# Altium schematic symbol library soldeerstation.SCHLIB: 20 symbols
Pins are listed as number, name and electrical type; pins without a type are passive.

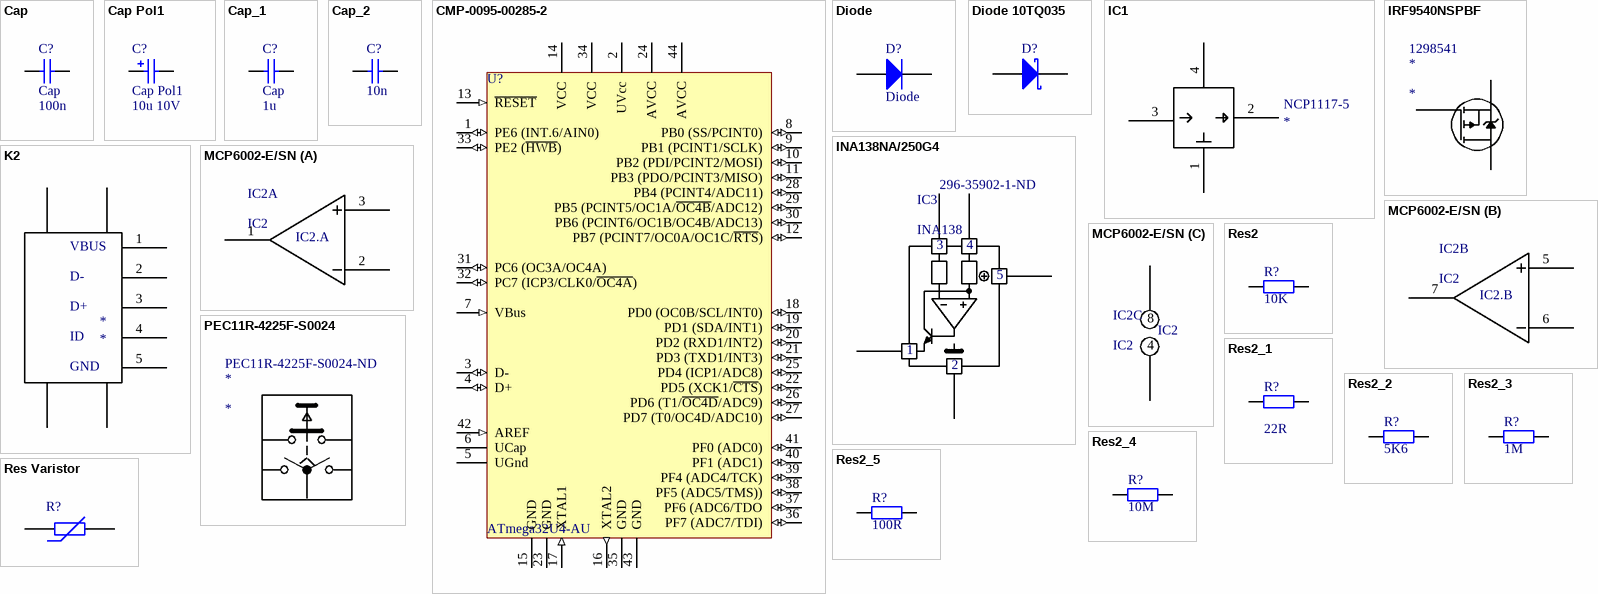
[diagram p0: symbols Cap to Res Varistor]

## Cap
designator C?  value 100n
Capacitor; Published: 8-Jun-2000; LatestRevisionDate: 17-Jul-2002; LatestRevisionNote: Re-released for DXP Platform.; PackageReference: RAD-0.3; Publisher: Altium Limited; PackageDescription: Radial Cap, Thru-Hole; 2 Leads; 0.3 in Pin Spacing
footprint RAD-0.3 (Radial Cap, Thru-Hole; 2 Leads; 0.3 in Pin Spacing)
simulation model CAP (Capacitor)
signal-integrity model Cap
pins: 1, 2

## Cap Pol1
designator C?  value 10u 10V
Polarized Capacitor (Radial); Published: 8-Jun-2000; LatestRevisionDate: 17-Jul-2002; LatestRevisionNote: Re-released for DXP Platform.; PackageReference: RB7.6-15; Publisher: Altium Limited; PackageDescription: Polarized Capacitor (Radial); 2 Leads
footprint RB7.6-15 (Polarized Capacitor (Radial); 2 Leads)
simulation model CAP (Capacitor)
signal-integrity model Cap Pol
pins: 1, 2
1 alternate drawing of the same symbol

## Cap_1
designator C?, comment Cap  value 1u
Capacitor; Published: 8-Jun-2000; LatestRevisionDate: 17-Jul-2002; LatestRevisionNote: Re-released for DXP Platform.; PackageReference: RAD-0.3; Publisher: Altium Limited; PackageDescription: Radial Cap, Thru-Hole; 2 Leads; 0.3 in Pin Spacing
footprint RAD-0.3 (Radial Cap, Thru-Hole; 2 Leads; 0.3 in Pin Spacing)
simulation model CAP (Capacitor)
signal-integrity model Cap
pins: 1, 2

## Cap_2
designator C?, comment value 10n  (hidden comment: Cap)
Capacitor; Published: 8-Jun-2000; LatestRevisionDate: 17-Jul-2002; LatestRevisionNote: Re-released for DXP Platform.; PackageReference: RAD-0.3; Publisher: Altium Limited; PackageDescription: Radial Cap, Thru-Hole; 2 Leads; 0.3 in Pin Spacing
footprint RAD-0.3 (Radial Cap, Thru-Hole; 2 Leads; 0.3 in Pin Spacing)
simulation model CAP (Capacitor)
signal-integrity model Cap
pins: 1, 2

## CMP-0095-00285-2
designator U?, comment ATmega32U4-AU
8-bit AVR Microcontroller, 2.7-5.5V, 16MHz, 32KB Flash, 1KB EEPROM, 2.5KB SRAM, USB Controller, 44-pin TQFP, Industrial Grade (-40°C to 85°C), Ext Osc; RevisionNote: DatasheetVersion updated. URLs added.; ComponentLink1Description: Manufacturer URL; PackageDescription: 44-Pin Plastic Thin Quad Flat Pack, 10 x 10 x 1.0 mm Body, 0.8 mm Pitch (TQFP); DatasheetVersion: revF, Nov-2010; ComponentLink2URL: http://www.atmel.com/dyn/resources/prod_documents/doc7766.pdf; ComponentLink1URL: http://www.atmel.com/; PackageReference: 44ML; ComponentLink2Description: ATmega16U4/32U4 Datasheet; PackageVersion: rev.G, Jul-2007; ComponentLink3URL: http://www.atmel.com/dyn/resources/prod_documents/7766S.pdf; ComponentLink3Description: ATmega16U4 ATmega32U4 Summary
footprint 44ML_M (Thin QFP, 44-Leads, Body 10x10mm, Pitch 0.8mm, IPC Low Density)
footprint 44ML_L (Thin QFP, 44-Leads, Body 10x10mm, Pitch 0.8mm, IPC High Density)
footprint 44ML_N (Thin QFP, 44-Leads, Body 10x10mm, Pitch 0.8mm, IPC Medium Density)
pins: 1 PE6 (INT.6/AIN0) (io), 2 UVcc (power), 3 D- (io), 4 D+ (io), 5 UGnd (power), 6 UCap, 7 VBus (in), 8 PB0 (SS/PCINT0) (io), 9 PB1 (PCINT1/SCLK) (io), 10 PB2 (PDI/PCINT2/MOSI) (io), 11 PB3 (PDO/PCINT3/MISO) (io), 12 PB7 (PCINT7/OC0A/OC1C/~{RTS}) (io), 13 ~{RESET} (in), 14 VCC (power), 15 GND (power), 16 XTAL2 (out), 17 XTAL1 (in), 18 PD0 (OC0B/SCL/INT0) (io), 19 PD1 (SDA/INT1) (io), 20 PD2 (RXD1/INT2) (io), 21 PD3 (TXD1/INT3) (io), 22 PD5 (XCK1/~{CTS}) (io), 23 GND (power), 24 AVCC (power), 25 PD4 (ICP1/ADC8) (io), 26 PD6 (T1/~{OC4D}/ADC9) (io), 27 PD7 (T0/OC4D/ADC10) (io), 28 PB4 (PCINT4/ADC11) (io), 29 PB5 (PCINT5/OC1A/~{OC4B}/ADC12) (io), 30 PB6 (PCINT6/OC1B/OC4B/ADC13) (io), 31 PC6 (OC3A/OC4A) (io), 32 PC7 (ICP3/CLK0/~{OC4A}) (io), 33 PE2 (~{HWB}) (io), 34 VCC (power), 35 GND (power), 36 PF7 (ADC7/TDI) (io), 37 PF6 (ADC6/TDO (io), 38 PF5 (ADC5/TMS)) (io), 39 PF4 (ADC4/TCK) (io), 40 PF1 (ADC1) (io), 41 PF0 (ADC0) (io), 42 AREF (in), 43 GND (power), 44 AVCC (power)

## Diode
designator D?
Default Diode; Published: 8-Jun-2000; LatestRevisionDate: 17-Jul-2002; LatestRevisionNote: Re-released for DXP Platform.; PackageVersion: Sep-1996; PackageReference: SMC; Publisher: Altium Limited; PackageDescription: DO-214-AB/SMC; 2 C-Bend Leads; Body 7.9 x 5.9 mm, inc. leads (LxW); Code_JEDEC: DO-214-AB
footprint SMC (DO-214-AB/SMC; 2 C-Bend Leads; Body 7.9 x 5.9 mm, inc. leads (LxW))
simulation model DIODE (Diode)
signal-integrity model Diode
pins: 1 A, 2 K

## Diode 10TQ035
designator D?  (value not drawn)
Schottky Rectifier; Note: Terminal 2 is the TAB and is electrically connected to the cathode; Published: 8-Jun-2000; LatestRevisionDate: 17-Jul-2002; LatestRevisionNote: Re-released for DXP Platform.; DatasheetVersion: PD-2.057B; PackageVersion: Feb-1998; PackageReference: TO-220AC; Publisher: Altium Limited; PackageDescription: TO, Thru-Hole, Vertical, Heatsink Mounted; 3 In-Line Leads (1 Absent); Pitch 2.54 mm; ComponentLink1Description: Manufacturer Link; ComponentLink1URL: http://www.irf.com/; ComponentLink2Description: Datasheet; ComponentLink2URL: http://www.irf.com/product-info/datasheets/data/10tq.pdf
footprint TO-220AC (TO, Thru-Hole, Vertical, Heatsink Mounted; 3 In-Line Leads (1 Absent); Pitch 2.54 mm)
simulation model 10TQ035 (DIODE)
pins: 1 K, 3 A

## IC1
designator NCP1117-5
pins: 1, 2, 3, 4

## INA138NA/250G4
designator IC3, comment INA138  Supplier Part Number 1: 296-35902-1-ND
SP Amp Current Sense Amp Single 36V 5-Pin SOT-23 T/R; Manufacturer: Texas Instruments; Manufacturer Part Number: INA138NA/250G4; Accuracy: 0.5%; Common Mode Rejection Ratio: 100dB; Number of Channels: 1; Min Supply Voltage: 2.7V; Bandwidth: 800kHz; Operating Supply Voltage: 28V; Nominal Supply Current: 25uA; Operating Supply Current: 45uA; Input Bias Current: 2uA; Input Offset Voltage (Vos): 1mV; Supplier 1: Digi-Key; RoHS: Yes; Category: Amplifiers - Op Amps, Buffer, Instrumentation; Stock 1: 2503; Pricing 1: 1=2,21000, 10=1,98200, 25=1,87000, 100=1,49600 (USD); Mount: Surface Mount; Case/Package: SOT-23; Number of Pins: 5; Weight: 0.000617oz; Contact Plating: Tin,Matte; Min Operating Temperature: -40°C; Max Operating Temperature: 125°C; Packaging: Tape and Reel; Max Supply Voltage: 36V; Number of Elements: 1; Number of Amplifiers: 1; Termination: SMD/SMT; Length: 2.9mm; Height: 1.15mm; Width: 1.6mm; Radiation Hardening: No; Lead Free: Lead Free; REACH SVHC: No SVHC; ComponentLink1URL: https://datasheet.ciiva.com/1940/ina138-1940082.pdf?src-supplier=Digi-Key; ComponentLink1Description: https://datasheet.ciiva.com/1940/ina138-1940082.pdf?src-supplier=Digi-Key; ComponentLink2URL: https://datasheet.ciiva.com/1484/1864388-1484499.pdf?src-supplier=Element14; ComponentLink2Description: https://datasheet.ciiva.com/1484/1864388-1484499.pdf?src-supplier=Element14; ComponentLink3URL: https://datasheet.ciiva.com/2977/ina168-2977829.pdf?src-supplier=Avnet; ComponentLink3Description: https://datasheet.ciiva.com/2977/ina168-2977829.pdf?src-supplier=Avnet; ComponentLink4URL: https://datasheet.ciiva.com/18617/ina138-18617510.pdf?src-supplier=Digi-Key; ComponentLink4Description: https://datasheet.ciiva.com/18617/ina138-18617510.pdf?src-supplier=Digi-Key; ComponentLink5URL: https://datasheet.ciiva.com/18617/ina138-18617511.pdf?src-supplier=Digi-Key; ComponentLink5Description: https://datasheet.ciiva.com/18617/ina138-18617511.pdf?src-supplier=Digi-Key; ComponentLink6URL: https://datasheet.ciiva.com/18617/ina138-18617512.pdf?src-supplier=Digi-Key; ComponentLink6Description: https://datasheet.ciiva.com/18617/ina138-18617512.pdf?src-supplier=Digi-Key
pins: 1, 2, 3, 4, 5

## IRF9540NSPBF
designator *  Supplier Part Number 1: 1298541
International Rectifier IRF9540NSPBF, MOSFET; Continuous Drain Current (ID): 23A; Max Power Dissipation: 3.1W; Drain to Source Voltage (Vdss): 100V; Rise Time: 67ns; Gate to Source Voltage (Vgs): 20V; Turn-Off Delay Time: 51ns; Turn-On Delay Time: 15ns; Input Capacitance: 1.45nF; Number of Elements: 1; Rds On Max: 117mR; Element Configuration: Single; Drain to Source Breakdown Voltage: -100V; Power Dissipation: 3.8W; Nominal Vgs: -4V; Recovery Time: 210ns; Supplier 1: Farnell; Manufacturer: International Rectifier; Manufacturer Part Number: IRF9540NSPBF; RoHS: Yes; Category: MOSFETs; Stock 1: 4486; Pricing 1: 5=1,53000, 10=1,20000, 100=0,87700, 250=0,74400, 500=0,61200, 1000=0,50700, 5000=0,48500 (EUR); Mount: Surface Mount; Case/Package: D2PAK; Number of Pins: 3; Min Operating Temperature: -55°C; Max Operating Temperature: 175°C; Packaging: Rail/Tube; Package Quantity: 50; Fall Time: 51ns; Drain to Source Resistance: 117mR; Dual Supply Voltage: 100V; Length: 10.67mm; Height: 4.83mm; Width: 9.65mm; Radiation Hardening: No; Lead Free: Lead Free; REACH SVHC: No SVHC; ComponentLink1URL: https://datasheet.ciiva.com/19479/1561571-19479846.pdf?src-supplier=Jameco; ComponentLink1Description: https://datasheet.ciiva.com/19479/1561571-19479846.pdf?src-supplier=Jameco; ComponentLink2URL: https://datasheet.ciiva.com/26789/irf9540nspbf-26789462.pdf?src-supplier=IIIC; ComponentLink2Description: https://datasheet.ciiva.com/26789/irf9540nspbf-26789462.pdf?src-supplier=IIIC; ComponentLink3URL: https://datasheet.ciiva.com/7835/irf9540nspbf-7835624.pdf?src-supplier=Element14; ComponentLink3Description: https://datasheet.ciiva.com/7835/irf9540nspbf-7835624.pdf?src-supplier=Element14; ComponentLink4URL: https://datasheet.ciiva.com/948/irf9540nspbf-948490.pdf?src-supplier=Digi-Key; ComponentLink4Description: https://datasheet.ciiva.com/948/irf9540nspbf-948490.pdf?src-supplier=Digi-Key
pins: D, G, S

## K2
designator *
pins: 1 VBUS, 2 D-, 3 D+, 4 ID, 5 GND, SHIELD1, SHIELD2, SHIELD3, SHIELD4

## MCP6002-E/SN
designator IC2, comment IC2
OP Amp Dual GP R-R I/O 6V Automotive 8-Pin SOIC N Tube; Manufacturer: Microchip; Manufacturer Part Number: MCP6002-E/SN; Supplier 1: Digi-Key; RoHS: Yes; Category: Amplifiers - Op Amps, Buffer, Instrumentation; Stock 1: 1931; Pricing 1: 1=0,36000, 25=0,30000, 100=0,27000 (USD); ComponentLink1URL: https://datasheet.ciiva.com/19474/1285896-19474572.pdf?src-supplier=Jameco; ComponentLink1Description: https://datasheet.ciiva.com/19474/1285896-19474572.pdf?src-supplier=Jameco; ComponentLink2URL: https://datasheet.ciiva.com/1793/21733j-1793395.pdf?src-supplier=Digi-Key; ComponentLink2Description: https://datasheet.ciiva.com/1793/21733j-1793395.pdf?src-supplier=Digi-Key; ComponentLink3URL: https://datasheet.ciiva.com/16378/filehandler-aspxddocname-en011705-16378791.pdf?src-supplier=Future+Electronics; ComponentLink3Description: https://datasheet.ciiva.com/16378/filehandler-aspxddocname-en011705-16378791.pdf?src-supplier=Future+Electronics; ComponentLink4URL: https://datasheet.ciiva.com/4756/21733e-41017-4756360.pdf?src-supplier=Mouser; ComponentLink4Description: https://datasheet.ciiva.com/4756/21733e-41017-4756360.pdf?src-supplier=Mouser; ComponentLink5URL: https://datasheet.ciiva.com/7653/524878-7653496.pdf?src-supplier=Element14; ComponentLink5Description: https://datasheet.ciiva.com/7653/524878-7653496.pdf?src-supplier=Element14; ComponentLink6URL: https://datasheet.ciiva.com/11706/jp011705-11706856.pdf?src-supplier=Avnet; ComponentLink6Description: https://datasheet.ciiva.com/11706/jp011705-11706856.pdf?src-supplier=Avnet; ComponentLink7URL: https://datasheet.ciiva.com/14151/bsmicrochip-op-verstaerker-mcp600-en-14151452.pdf?src-supplier=Distrelec; ComponentLink7Description: https://datasheet.ciiva.com/14151/bsmicrochip-op-verstaerker-mcp600-en-14151452.pdf?src-supplier=Distrelec; Supplier Part Number 1: MCP6002-E/SN-ND
part A pins: 1, 2, 3
part B pins: 5, 6, 7
part C pins: 4, 8
part A text: IC2.A
part B text: IC2.B

## PEC11R-4225F-S0024
designator *  Supplier Part Number 1: PEC11R-4225F-S0024-ND
Encoders 25mm SHAFT w/SWITCH; Manufacturer: Bourns; Manufacturer Part Number: PEC11R-4225F-S0024; Number of Channels: 2; Encoder Type: Mechanical; Pulses per Revolution: 24; Detent: Yes; Output Type: Quadrature,Incremental; Max Supply Voltage (DC): 5V; Capacitance: 4225F; Hole Diameter: 7mm; Supplier 1: Digi-Key; RoHS: Yes; Category: Accessories; Stock 1: 733; Pricing 1: 1=1,68000, 10=1,56600, 25=1,47920, 50=1,30500, 100=1,07300, 250=1,04400, 500=0,98600, 1000=0,92800, 5000=0,81200 (USD); Mount: Through Hole,Panel,PCB; Min Operating Temperature: -30°C; Max Operating Temperature: 70°C; Packaging: Bulk; Package Quantity: 150; Termination: PC Pin; Built in Switch: Yes; Orientation: Vertical; Type: Mechanical; Length: 31.5mm; Height: 13.4mm; Width: 12.5mm; REACH SVHC: No SVHC; ComponentLink1URL: https://datasheet.ciiva.com/28632/1785154-28632188.pdf?src-supplier=Element14; ComponentLink1Description: https://datasheet.ciiva.com/28632/1785154-28632188.pdf?src-supplier=Element14; ComponentLink2URL: https://datasheet.ciiva.com/29349/pec11r-29349513.pdf?src-supplier=Digi-Key; ComponentLink2Description: https://datasheet.ciiva.com/29349/pec11r-29349513.pdf?src-supplier=Digi-Key; ComponentLink3URL: https://datasheet.ciiva.com/14532/70276547-14532558.pdf?src-supplier=Allied+Electronics; ComponentLink3Description: https://datasheet.ciiva.com/14532/70276547-14532558.pdf?src-supplier=Allied+Electronics; ComponentLink4URL: https://datasheet.ciiva.com/12175/pec11r-221203-12175455.pdf?src-supplier=Mouser; ComponentLink4Description: https://datasheet.ciiva.com/12175/pec11r-221203-12175455.pdf?src-supplier=Mouser

## Res2
designator R?  value 10K  (hidden comment: Res2)
Resistor; Published: 8-Jun-2000; LatestRevisionDate: 17-Jul-2002; LatestRevisionNote: Re-released for DXP Platform.; PackageReference: AXIAL-0.4; Publisher: Altium Limited; PackageDescription: Axial Device, Thru-Hole; 2 Leads; 0.4 in Pin Spacing
footprint AXIAL-0.4 (Axial Device, Thru-Hole; 2 Leads; 0.4 in Pin Spacing)
simulation model RESISTOR (Resistor)
signal-integrity model Res
pins: 1, 2

## Res2_1
designator R?, comment value 22R  (hidden comment: Res2)
Resistor; Published: 8-Jun-2000; LatestRevisionDate: 17-Jul-2002; LatestRevisionNote: Re-released for DXP Platform.; PackageReference: AXIAL-0.4; Publisher: Altium Limited; PackageDescription: Axial Device, Thru-Hole; 2 Leads; 0.4 in Pin Spacing
footprint AXIAL-0.4 (Axial Device, Thru-Hole; 2 Leads; 0.4 in Pin Spacing)
simulation model RESISTOR (Resistor)
signal-integrity model Res
pins: 1, 2

## Res2_2
designator R?, comment value 5K6  (hidden comment: Res2)
Resistor; Published: 8-Jun-2000; LatestRevisionDate: 17-Jul-2002; LatestRevisionNote: Re-released for DXP Platform.; PackageReference: AXIAL-0.4; Publisher: Altium Limited; PackageDescription: Axial Device, Thru-Hole; 2 Leads; 0.4 in Pin Spacing
footprint AXIAL-0.4 (Axial Device, Thru-Hole; 2 Leads; 0.4 in Pin Spacing)
simulation model RESISTOR (Resistor)
signal-integrity model Res
pins: 1, 2

## Res2_3
designator R?, comment value 1M  (hidden comment: Res2)
Resistor; Published: 8-Jun-2000; LatestRevisionDate: 17-Jul-2002; LatestRevisionNote: Re-released for DXP Platform.; PackageReference: AXIAL-0.4; Publisher: Altium Limited; PackageDescription: Axial Device, Thru-Hole; 2 Leads; 0.4 in Pin Spacing
footprint AXIAL-0.4 (Axial Device, Thru-Hole; 2 Leads; 0.4 in Pin Spacing)
simulation model RESISTOR (Resistor)
signal-integrity model Res
pins: 1, 2

## Res2_4
designator R?, comment value 10M  (hidden comment: Res2)
Resistor; Published: 8-Jun-2000; LatestRevisionDate: 17-Jul-2002; LatestRevisionNote: Re-released for DXP Platform.; PackageReference: AXIAL-0.4; Publisher: Altium Limited; PackageDescription: Axial Device, Thru-Hole; 2 Leads; 0.4 in Pin Spacing
footprint AXIAL-0.4 (Axial Device, Thru-Hole; 2 Leads; 0.4 in Pin Spacing)
simulation model RESISTOR (Resistor)
signal-integrity model Res
pins: 1, 2

## Res2_5
designator R?, comment value 100R  (hidden comment: Res2)
Resistor; Published: 8-Jun-2000; LatestRevisionDate: 17-Jul-2002; LatestRevisionNote: Re-released for DXP Platform.; PackageReference: AXIAL-0.4; Publisher: Altium Limited; PackageDescription: Axial Device, Thru-Hole; 2 Leads; 0.4 in Pin Spacing
footprint AXIAL-0.4 (Axial Device, Thru-Hole; 2 Leads; 0.4 in Pin Spacing)
simulation model RESISTOR (Resistor)
signal-integrity model Res
pins: 1, 2

## Res Varistor
designator R?  (value not drawn)
Varistor (Voltage-Sensitive Resistor); Published: 24-Mar-1999; LatestRevisionDate: 29-May-2009; LatestRevisionNote: IPC-7351 Footprint Added.; PackageVersion: Mar-2003; PackageReference: 6-0805; Publisher: Altium Limited; PackageDescription: Chip Resistor 0805 Case Size; Code_IPC: RESC2012
footprint 6-0805_N (Chip Resistor, Body 2.0x1.2mm, IPC Medium Density)
footprint 6-0805_L (Chip Resistor, Body 2.0x1.2mm, IPC High Density)
footprint 6-0805_M (Chip Resistor, Body 2.0x1.2mm, IPC Low Density)
pins: 1, 2